# Altium schematic symbol library sucaiku.SCHLIB: 29 symbols
Pins are listed as number, name and electrical type; pins without a type are passive.

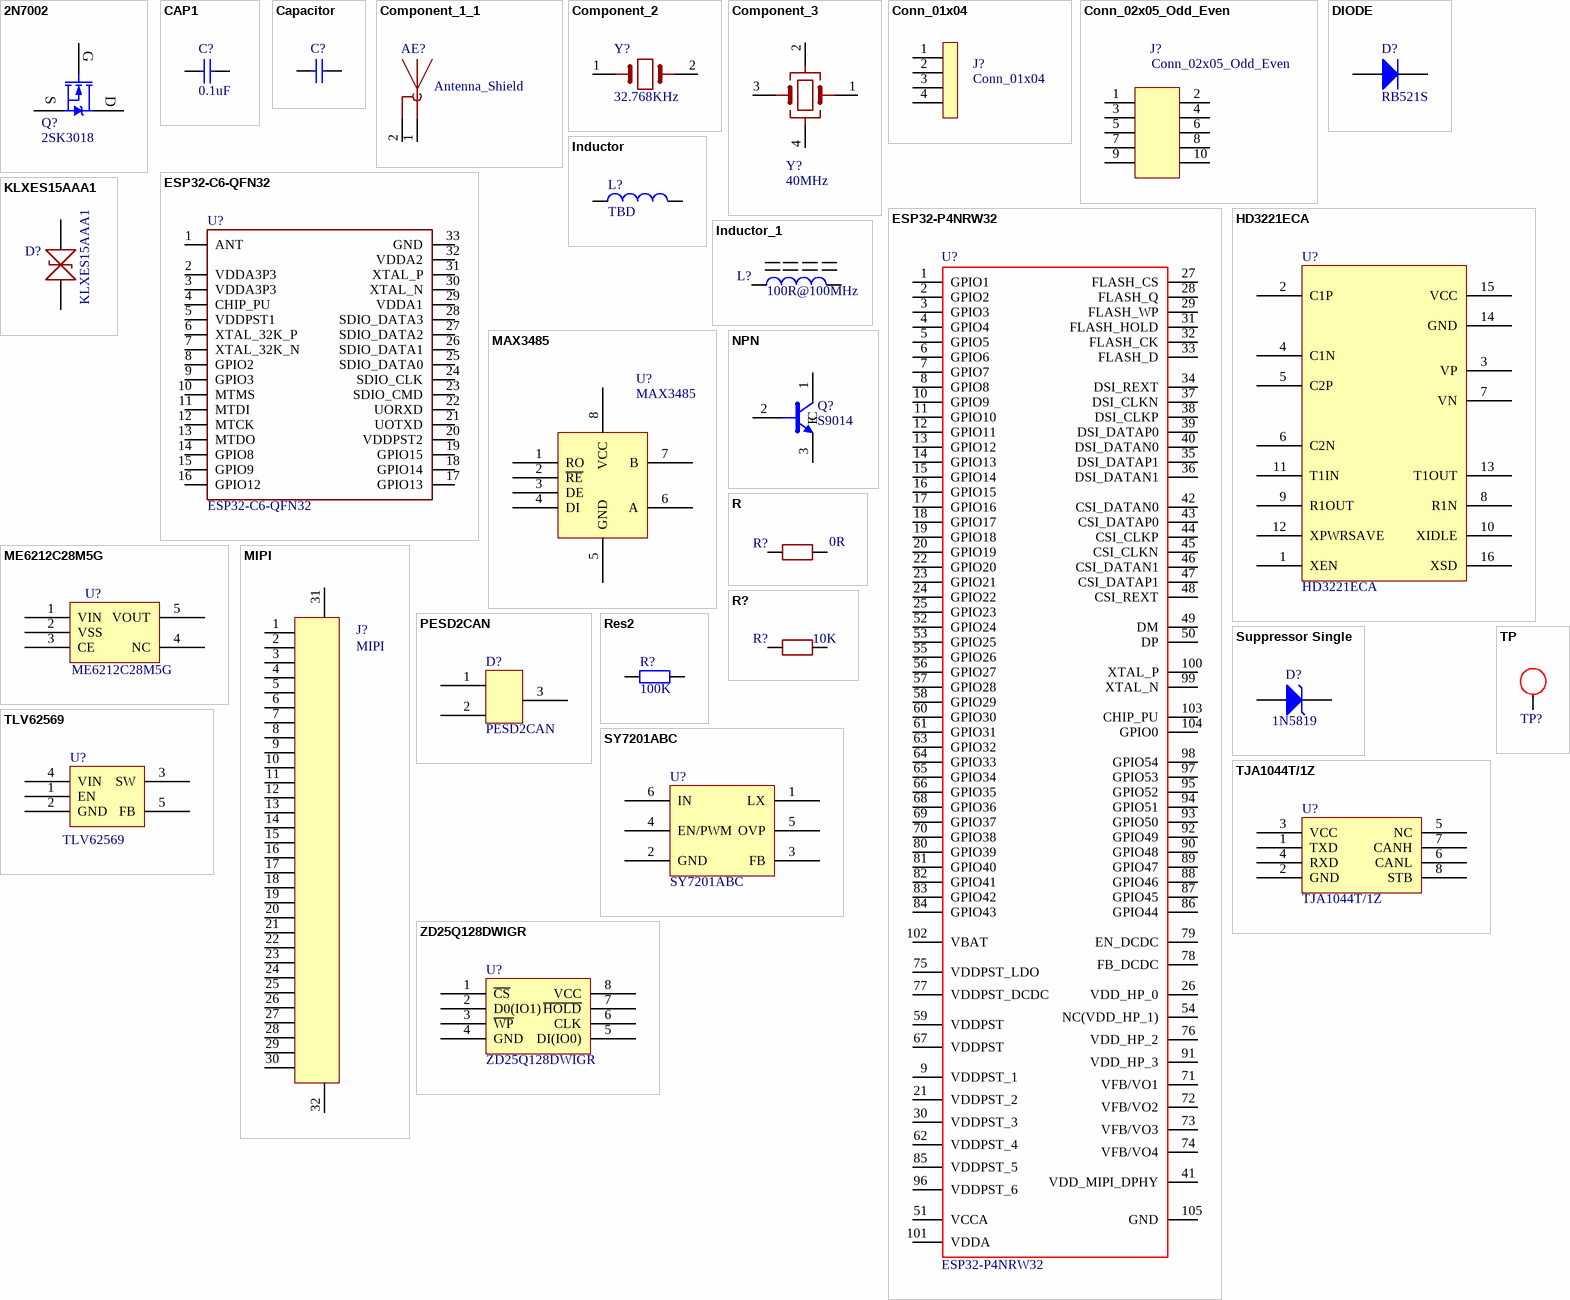
[diagram p0: symbols 2N7002 to ZD25Q128DWIGR]

## 2N7002
designator Q?, comment 2SK3018
footprint SOT-23-3_L2.9-W1.6-P1.90-LS2.8-BR
pins: 1 G, 2 S, 3 D

## CAP1
designator C?, comment 0.1uF
footprint C0402
pins: 1, 2

## Capacitor
designator C?, comment 12.5pF  (value not drawn)
Capacitor; SimulationGenericComponent: True; Value: 12.5pF
simulation model C_Capacitor_Default (CAP)
footprint C0402
pins: 1, 2

## Component_1_1
designator AE?, comment Antenna_Shield
footprint IPEX-SMD_BWIPX-1-001E
footprint ANT
pins: 1, 2

## Component_2
designator Y?, comment 32.768KHz
footprint OSC-SMD_4P-L3.2-W2.5-BL_SIT8008BI
footprint CRYSTAL-SMD_L3.2-W1.5-1
pins: 1, 2

## Component_3
designator Y?, comment 40MHz
footprint OSC-SMD_4P-L3.2-W2.5-BL_SIT8008BI
pins: 1, 2, 3, 4

## Conn_01x04
designator J?
footprint HDR-TH_4P-P2.54-H-M-W10.4
pins: 1, 2, 3, 4

## Conn_02x05_Odd_Even
designator J?
footprint HDR-TH_10P-P2.54-H-M-R2-C5-S2.54-N
pins: 1, 2, 3, 4, 5, 6, 7, 8, 9, 10

## DIODE
designator D?, comment RB521S
footprint D0402-BI
footprint SOD-523_L1.2-W0.8-LS1.6-RD
pins: 1 A, 2 K

## ESP32-C6-QFN32
designator U?
pins: 1 ANT, 2 VDDA3P3, 3 VDDA3P3, 4 CHIP_PU, 5 VDDPST1, 6 XTAL_32K_P, 7 XTAL_32K_N, 8 GPIO2, 9 GPIO3, 10 MTMS, 11 MTDI, 12 MTCK, 13 MTDO, 14 GPIO8, 15 GPIO9, 16 GPIO12, 17 GPIO13, 18 GPIO14, 19 GPIO15, 20 VDDPST2, 21 UOTXD, 22 UORXD, 23 SDIO_CMD, 24 SDIO_CLK, 25 SDIO_DATA0, 26 SDIO_DATA1, 27 SDIO_DATA2, 28 SDIO_DATA3, 29 VDDA1, 30 XTAL_N, 31 XTAL_P, 32 VDDA2, 33 GND

## ESP32-P4NRW32
designator U?
footprint QFN-104_L10.0-W10.0-P0.35-TL-EP7.5
pins: 1 GPIO1, 2 GPIO2, 3 GPIO3, 4 GPIO4, 5 GPIO5, 6 GPIO6, 7 GPIO7, 8 GPIO8, 9 VDDPST_1, 10 GPIO9, 11 GPIO10, 12 GPIO11, 13 GPIO12, 14 GPIO13, 15 GPIO14, 16 GPIO15, 17 GPIO16, 18 GPIO17, 19 GPIO18, 20 GPIO19, 21 VDDPST_2, 22 GPIO20, 23 GPIO21, 24 GPIO22, 25 GPIO23, 26 VDD_HP_0, 27 FLASH_CS, 28 FLASH_Q, 29 FLASH_WP, 30 VDDPST_3, 31 FLASH_HOLD, 32 FLASH_CK, 33 FLASH_D, 34 DSI_REXT, 35 DSI_DATAP1, 36 DSI_DATAN1, 37 DSI_CLKN, 38 DSI_CLKP, 39 DSI_DATAP0, 40 DSI_DATAN0, 41 VDD_MIPI_DPHY, 42 CSI_DATAN0, 43 CSI_DATAP0, 44 CSI_CLKP, 45 CSI_CLKN, 46 CSI_DATAN1, 47 CSI_DATAP1, 48 CSI_REXT, 49 DM, 50 DP, 51 VCCA, 52 GPIO24, 53 GPIO25, 54 NC(VDD_HP_1), 55 GPIO26, 56 GPIO27, 57 GPIO28, 58 GPIO29, 59 VDDPST, 60 GPIO30, 61 GPIO31, 62 VDDPST_4, 63 GPIO32, 64 GPIO33, 65 GPIO34, 66 GPIO35, 67 VDDPST, 68 GPIO36, 69 GPIO37, 70 GPIO38, 71 VFB/VO1, 72 VFB/VO2, 73 VFB/VO3, 74 VFB/VO4, 75 VDDPST_LDO, 76 VDD_HP_2, 77 VDDPST_DCDC, 78 FB_DCDC, 79 EN_DCDC, 80 GPIO39, 81 GPIO40, 82 GPIO41, 83 GPIO42, 84 GPIO43, 85 VDDPST_5, 86 GPIO44, 87 GPIO45, 88 GPIO46, 89 GPIO47, 90 GPIO48, 91 VDD_HP_3, 92 GPIO49, 93 GPIO50, 94 GPIO51, 95 GPIO52, 96 VDDPST_6, 97 GPIO53, 98 GPIO54, 99 XTAL_N, 100 XTAL_P, 101 VDDA, 102 VBAT, 103 CHIP_PU, 104 GPIO0, 105 GND

## HD3221ECA
designator U?
footprint SSOP-16_L6.2-W5.3-P0.65-LS7.8-BL
pins: 1 XEN, 2 C1P, 3 VP, 4 C1N, 5 C2P, 6 C2N, 7 VN, 8 R1N, 9 R1OUT, 10 XIDLE, 11 T1IN, 12 XPWRSAVE, 13 T1OUT, 14 GND, 15 VCC, 16 XSD

## Inductor
designator L?, comment TBD
Inductor; SimulationGenericComponent: True; Value: TBD
simulation model L_Inductor_Default (INDUCTOR)
footprint L0603
pins: 1, 2

## Inductor_1
designator L?, comment 100R@100MHz
Inductor; SimulationGenericComponent: True; Value: 100R
simulation model L_Inductor_Default (INDUCTOR)
footprint LED0402-RD
pins: 1, 2

## KLXES15AAA1
designator D?
footprint D0402-BI
pins: 1, 2

## MAX3485
designator U?
footprint SOIC-8_L4.9-W3.9-P1.27-LS6.0-BL
pins: 1 RO, 2 ~{RE}, 3 DE, 4 DI, 5 GND, 6 A, 7 B, 8 VCC

## ME6212C28M5G
designator U?
footprint SOT-23-5_L3.0-W1.7-P0.95-LS2.8-BR
pins: 1 VIN, 2 VSS, 3 CE, 4 NC, 5 VOUT

## MIPI
designator J?
footprint FPC-SMD_30P-P0.50_XUNPU_FPC-05F-30PH20
pins: 1, 2, 3, 4, 5, 6, 7, 8, 9, 10, 11, 12, 13, 14, 15, 16, 17, 18, 19, 20, 21, 22, 23, 24, 25, 26, 27, 28, 29, 30, 31, 32

## NPN
designator Q?, comment S9014
footprint SOT-23-3_L2.9-W1.6-P1.90-LS2.8-BR
pins: 1 C, 2 B, 3 E

## PESD2CAN
designator D?
footprint SOT-23-3_L3.0-W1.7-P0.95-LS2.9-BR
pins: 1, 2, 3

## R
designator R?, comment 0R
footprint R0402
pins: 1, 2

## R?
designator R?, comment 10K
footprint R0402
pins: 1, 2

## Res2
designator R?, comment 100K
Resistor; Value: NC; Published: 8-Jun-2000; LatestRevisionDate: 17-Jul-2002; LatestRevisionNote: Re-released for DXP Platform.; PackageReference: AXIAL-0.4; Publisher: Altium Limited; PackageDescription: Axial Device, Thru-Hole; 2 Leads; 0.4 in Pin Spacing
simulation model RESISTOR (Resistor)
signal-integrity model Res
footprint R0805
footprint R0402
pins: 1, 2

## Suppressor Single
designator D?, comment 1N5819
Suppressor Single; AF: 1; BV: 0; BV_MAX: 1e99; EG: 1.11; FC: 0.5; IBV: 0.001; IS: 1e-14; MJSW: 0.33; NTUN: 30; TNOM: 27; XTI: 3; SimulationGenericComponent: True; CJO: 0; CJP: 0; CTA: 0; CTP: 0; FCS: 0.5; FV_MAX: 1e99; IKF: 0; IKR: 0; ISR: 1e-14; JSW: 0; JTUN: 0; JTUNSW: 0; KEG: 1; KF: 0; LEVEL: 1; N: 1; NBV: 1; NR: 1; NS: 1; PHP: 1; RS: 0; TCV: 0; TLEV: 0; TLEVC: 0; TM1: 0; TM2: 0; TPB: 0; TPHP: 0; TRS: 0; TRS2: 0; TT: 0; TTT1: 0; TTT2: 0; VJ: 1; XTITUN: 3
simulation model diode (Diodes)
footprint SOD-323_L1.8-W1.3-LS2.5-RD
pins: 1 K, 2 A

## SY7201ABC
designator U?
footprint SOT-23-6_L2.9-W1.6-P0.95-LS2.8-BL
pins: 1 LX, 2 GND, 3 FB, 4 EN/PWM, 5 OVP, 6 IN

## TJA1044T/1Z
designator U?
footprint SOIC-8_L4.9-W3.9-P1.27-LS6.0-BL
pins: 1 TXD, 2 GND, 3 VCC, 4 RXD, 5 NC, 6 CANL, 7 CANH, 8 STB

## TLV62569
designator U?
footprint SOT-23-5_L3.0-W1.7-P0.95-LS2.8-BR
pins: 1 EN, 2 GND, 3 SW, 4 VIN, 5 FB

## TP
designator TP?, comment TP11  (value not drawn)
footprint Test-Point-1*1mm
pins: 1

## ZD25Q128DWIGR
designator U?
footprint WSON-8_L6.0-W5.0-P1.27-BL-EP
pins: 1 ~{CS}, 2 D0(IO1), 3 ~{WP}, 4 GND, 5 DI(IO0), 6 CLK, 7 ~{HOLD}, 8 VCC